# EAGLE library part 74LVC1T45 (library Z_GessIOMod)
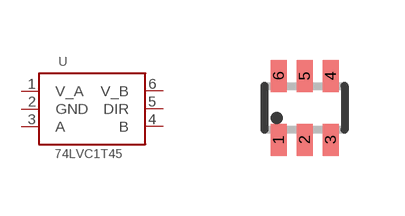
[diagram p10: symbol with the pads of SOT363_PHILIPS; footprint SOT363_PHILIPS]

Designator prefix -

## 74LVC1T45  [SOT363_PHILIPS]
1  V_A
2  GND
3  A
4  B
5  DIR
6  V_B

## Footprint SOT363_PHILIPS (pad centres in mm)
Small Outline Transistor; 6 leads Philips Semiconductors, SOT363.pdf
smd 0.4 x 0.8: 1 -0.65,-0.8; 2 0,-0.8; 3 0.65,-0.8; 4 0.65,0.8; 5 0,0.8; 6 -0.65,0.8